# Altium schematic symbol library SCH - MISC - PushButton_P16-TF.SCHLIB: 1 symbol
Pins are listed as number, name and electrical type; pins without a type are passive.

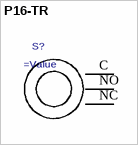
[diagram p0: symbol P16-TR]

## P16-TR
designator S?
stainless steel push button 0.63 inch flat
pins: C, NC, NO